# Altium footprint library DIODES PTH.PcbLib: 160 footprints (part 5 of 10)
Each footprint in its own frame and in the unit in brackets; x right, y up, seen from the top. Pads: shape width x height; smd on the part's side, far side on the other; paste and mask are expansions set on the pad; w line width, h text height; cw(c..) or ccw(c..) is an arc to the next point about the centre after c.
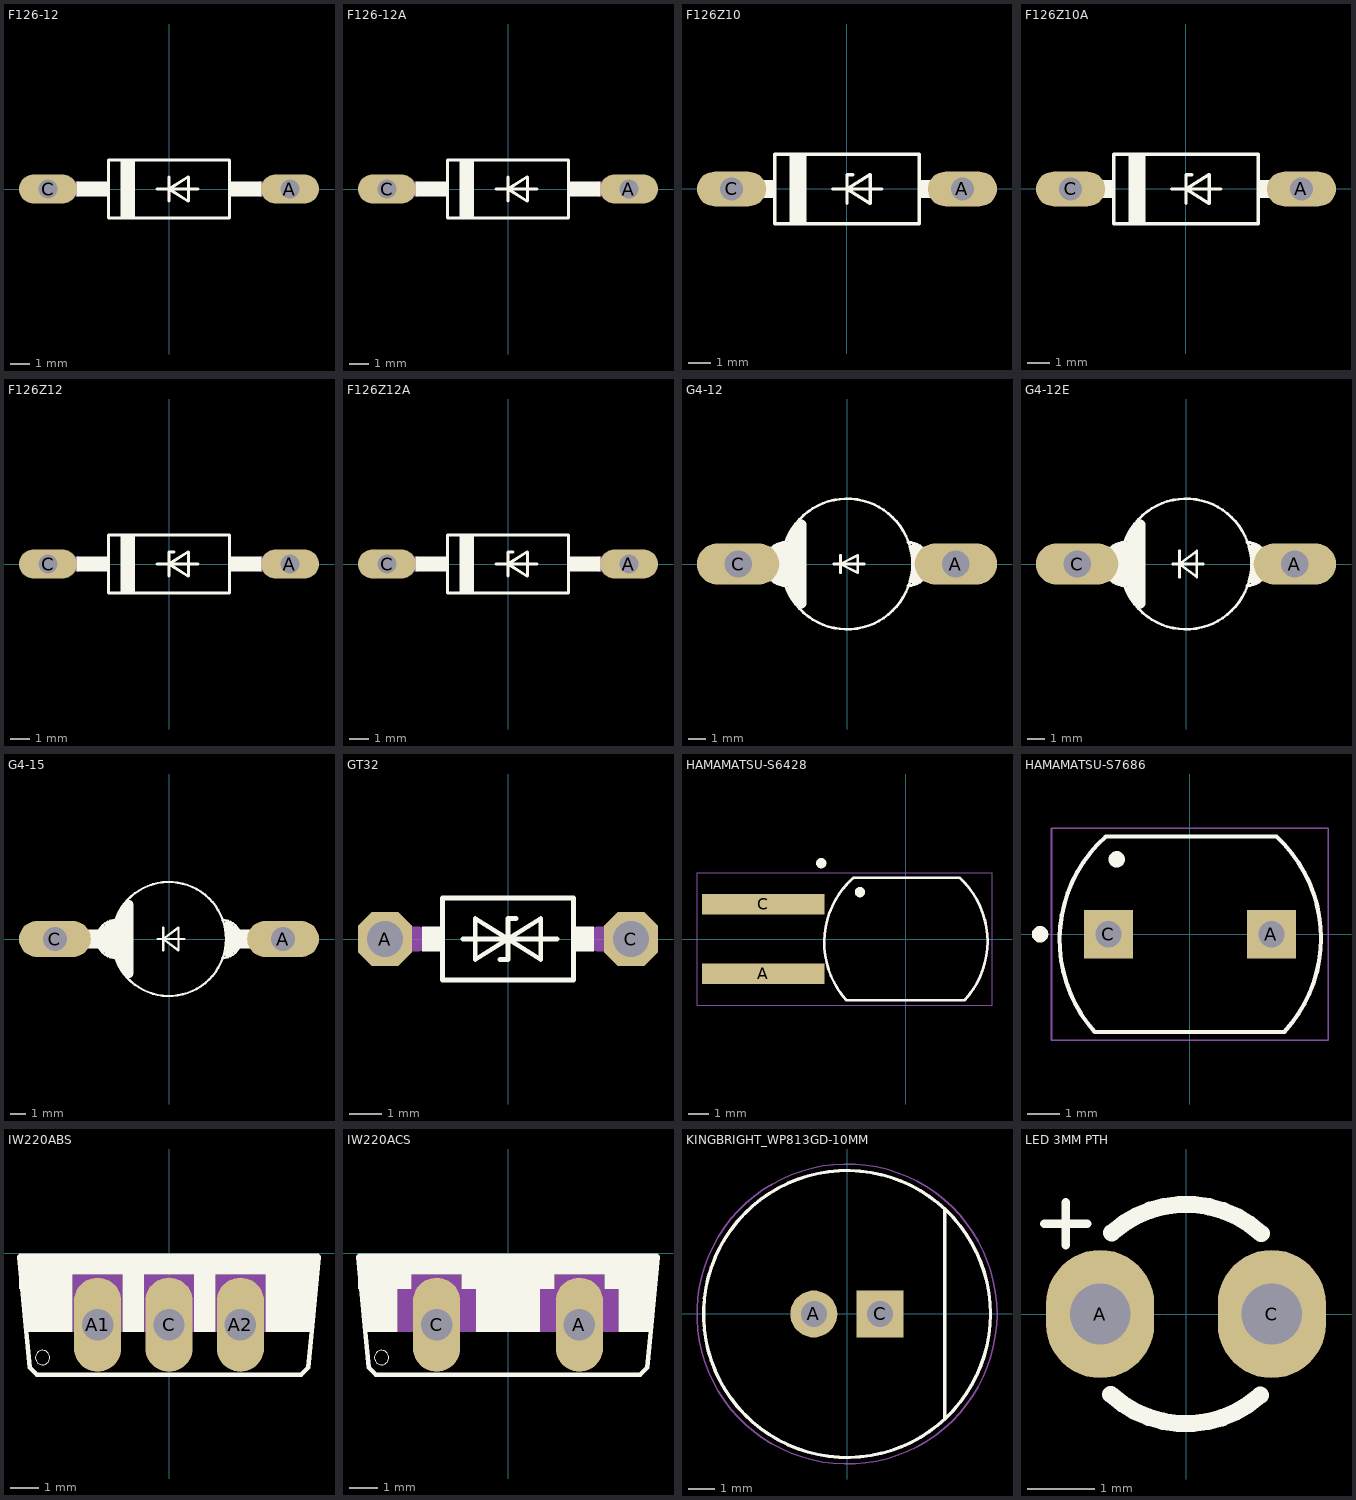
[diagram p4: the footprints below, top view; thin cyan lines are the x and y axes]

## F126-12 [mil]
pads (2):
  oval 120x60 hole 40: A(250,0) C(-250,0)
Top Overlay:
  rectangle: 125,-16 191,16
  rectangle: -191,-16 -125,16
  rectangle: -100,-60 -70,60
  lines w6: -25,0 0,0 ; 0,-25 0,0 ; 0,25 0,0 ; 60,0 0,0 ; 0,0 40,25 40,-25 0,0 ; -125,-60 -125,60 125,60 125,-60 -125,-60
Mechanical 16:
  lines w32: -250,0 -190,0 ; 190,0 250,0

## F126-12A [mil]
pads (2):
  oval 120x60 hole 40: A(250,0) C(-250,0)
Top Overlay:
  rectangle: 125,-16 191,16
  rectangle: -191,-16 -125,16
  rectangle: -100,-60 -70,60
  lines w6: -25,0 0,0 ; 0,-25 0,0 ; 0,25 0,0 ; 60,0 0,0 ; 0,0 40,25 40,-25 0,0 ; -125,-60 -125,60 125,60 125,-60 -125,-60
Mechanical 16:
  lines w32: -250,0 -190,0 ; 190,0 250,0

## F126Z10 [mil]
pads (2):
  oval 120x60 hole 40: A(200,0) C(-200,0)
Top Overlay:
  rectangle: -147,-16 -125,16
  rectangle: 125,-16 147,16
  rectangle: -100,-60 -70,60
  lines w6: -25,0 0,0 ; 0,-25 0,0 ; 10,25 0,25 0,0 ; 60,0 0,0 ; 0,0 40,25 40,-25 0,0 ; -125,-60 -125,60 125,60 125,-60 -125,-60
Mechanical 16:
  lines w32: -200,0 -150,0 ; 150,0 200,0

## F126Z10A [mil]
pads (2):
  oval 120x60 hole 40: A(200,0) C(-200,0)
Top Overlay:
  rectangle: -147,-16 -125,16
  rectangle: 125,-16 147,16
  rectangle: -100,-60 -70,60
  lines w6: -25,0 0,0 ; 0,-25 0,0 ; 10,25 0,25 0,0 ; 60,0 0,0 ; 0,0 40,25 40,-25 0,0 ; -125,-60 -125,60 125,60 125,-60 -125,-60
Mechanical 16:
  lines w32: -200,0 -150,0 ; 150,0 200,0

## F126Z12 [mil]
pads (2):
  oval 120x60 hole 40: A(250,0) C(-250,0)
Top Overlay:
  rectangle: 125,-16 191,16
  rectangle: -191,-16 -125,16
  rectangle: -100,-60 -70,60
  lines w6: -25,0 0,0 ; 0,-25 0,0 ; 10,25 0,25 0,0 ; 60,0 0,0 ; 0,0 40,25 40,-25 0,0 ; -125,-60 -125,60 125,60 125,-60 -125,-60
Mechanical 16:
  lines w32: -250,0 -190,0 ; 190,0 250,0

## F126Z12A [mil]
pads (2):
  oval 120x60 hole 40: A(250,0) C(-250,0)
Top Overlay:
  rectangle: 125,-16 191,16
  rectangle: -191,-16 -125,16
  rectangle: -100,-60 -70,60
  lines w6: -25,0 0,0 ; 0,-25 0,0 ; 10,25 0,25 0,0 ; 60,0 0,0 ; 0,0 40,25 40,-25 0,0 ; -125,-60 -125,60 125,60 125,-60 -125,-60
Mechanical 16:
  lines w32: -250,0 -190,0 ; 190,0 250,0

## G4-12 [mil]
pads (2):
  oval 189x94.5 hole 63: A(250,0) C(-250,0)
Top Overlay:
  circle w6: c0,0 r150
  rectangle: 150,-25 195,25
  rectangle: -195,-25 -150,25
  lines w6: -140,-50 cw(c-140,0) -140,50 ; -30,0 -15,0 ; -15,-20 -15,0 ; -15,20 -15,0 ; 40,0 -15,0 ; 140,-50 ccw(c140,0) 140,50 ; -15,0 25,-20 25,20 -15,0
  lines w24: -170,-20 -155,-35 ; -170,20 -155,35 ; -140,-40 -140,40 ; -115,-80 -125,-60 -125,60 -115,80 ; -105,-90 -105,90 ; 155,-35 170,-20 ; 155,35 170,20
Mechanical 16:
  lines w50: -250,0 -200,0 ; 200,0 250,0

## G4-12E [mil]
pads (2):
  oval 189x94.5 hole 63: A(250,0) C(-250,0)
Top Overlay:
  circle w6: c0,0 r150
  rectangle: -195,-25 -150,25
  rectangle: 150,-25 195,25
  lines w6: -140,-50 cw(c-140,0) -140,50 ; -30,0 -15,0 ; -15,-30 -15,0 ; -15,30 -15,0 ; 40,0 -15,0 ; 140,-50 ccw(c140,0) 140,50 ; -15,0 25,30 25,-30 -15,0
  lines w24: -170,-20 -155,-35 ; -170,20 -155,35 ; -140,-40 -140,40 ; -115,-80 -125,-60 -125,60 -115,80 ; -105,-90 -105,90 ; 155,-35 170,-20 ; 155,35 170,20
Mechanical 16:
  lines w50: -250,0 -200,0 ; 200,0 250,0

## G4-15 [mil]
pads (2):
  oval 189x94.5 hole 63: A(300,0) C(-300,0)
Top Overlay:
  circle w6: c0,0 r150
  rectangle: -230,-25 -150,25
  rectangle: 150,-25 230,25
  lines w6: -140,-50 cw(c-140,0) -140,50 ; -30,0 -15,0 ; -15,-30 -15,0 ; -15,30 -15,0 ; 40,0 -15,0 ; 140,-50 ccw(c140,0) 140,50 ; -15,0 25,30 25,-30 -15,0
  lines w24: -170,-20 -155,-35 ; -170,20 -155,35 ; -140,-40 -140,40 ; -115,-80 -125,-60 -125,60 -115,80 ; -105,-90 -105,90 ; 155,-35 170,-20 ; 155,35 170,20
Mechanical 16:
  lines w50: -300,0 -225,0 ; 225,0 300,0

## GT32 [mil]
pads (2):
  oct 66x66 hole 44: A(-150,0) C(150,0)
Top Overlay:
  rectangle: -105,-15 -80,15
  rectangle: 80,-15 105,15
  lines w6: -55,0 0,0 ; -10,-25 0,-25 0,0 ; 10,25 0,25 0,0 ; 60,0 0,0 ; 0,0 -40,-25 -40,25 0,0 ; 0,0 40,25 40,-25 0,0 ; -80,-50 -80,50 80,50 80,-50 -80,-50
Mechanical 16:
  lines w30: -150,0 -110,0 ; 110,0 150,0

## HAMAMATSU-S6428 [mm] "Photodiode with sensitivity close to spectral luminous efficiency"
pads (2):
  rect 6x1 smd mask+0.05: A(-7,-1.7) C(-7,1.7)
Top Overlay:
  circle w0.254: c-2.25,2.3 r0.125
  circle w0.254: c-4.15,3.725 r0.125
  lines w0.127: -2.921,-3 2.891,-3 ; -2.921,-2.998 cw(c0.241,-0.17) -2.583,2.997 ; -2.584,3 2.655,3 cw(c-0.22,-0.12) 2.898,-2.997
Mechanical 1:
  lines w0.1: -2.921,-3 cw(c0.241,-0.172) -2.583,2.995 ; -2.921,-2.997 2.9,-2.997 ; -2.583,3 2.65,3 ; 2.657,2.997 cw(c-0.218,-0.123) 2.9,-3
Mechanical 15:
  lines w0.05: -10.25,-3.25 4.25,-3.25 4.25,3.25 -10.25,3.25 -10.25,-3.25
3D body "S1133.STEP": height 1.6, standoff -8.9, extent -4,-3 4,3

## HAMAMATSU-S7686 [mm] "Photodiode with sensitivity close to spectral luminous efficiency"
pads (2):
  rect 1.5x1.5 hole 0.8 mask+0.05: A(2.5,0) C(-2.5,0)
Top Overlay:
  circle w0.254: c-4.6,0 r0.125
  circle w0.254: c-2.25,2.3 r0.125
  lines w0.127: -2.921,-3 2.891,-3 ; -2.921,-2.998 cw(c0.241,-0.17) -2.583,2.997 ; -2.584,3 2.655,3 cw(c-0.22,-0.12) 2.898,-2.997
Mechanical 1:
  lines w0.1: -2.921,-3 cw(c0.241,-0.172) -2.583,2.995 ; -2.921,-2.997 2.9,-2.997 ; -2.583,3 2.65,3 ; 2.657,2.997 cw(c-0.218,-0.123) 2.9,-3
Mechanical 15:
  lines w0.05: -4.25,-3.25 -4.25,3.25 4.25,3.25 4.25,-3.25 -4.25,-3.25
3D body "S1133.STEP": height 1.6, standoff -8.9, extent -4,-3 4,3

## IW220ABS [mil]
pads (3):
  oval 66x132 hole 44: A1(-100,-100) A2(100,-100) C(0,-100)
Top Overlay:
  circle w0: c-177,-146 r10
  rectangle: -210,-30 210,0
  rectangle: -210,-50 -135,-30
  rectangle: 135,-50 205,-30
  rectangle: 200,-75 205,-50
  rectangle: -205,-75 -200,-50
  rectangle: 135,-110 200,-50
  rectangle: 35,-110 65,-30
  rectangle: -65,-110 -35,-30
  rectangle: -200,-110 -135,-50
  lines w6: -210,-5 -195,-160 -185,-170 185,-170 195,-160 210,-5
Mechanical 16:
  rectangle: 65,-110 135,-30
  rectangle: -35,-110 35,-30
  rectangle: -135,-110 -65,-30

## IW220ACS [mil]
pads (2):
  oval 66x132 hole 44: A(100,-100) C(-100,-100)
Top Overlay:
  circle w0: c-177,-146 r10
  rectangle: -205,-75 -200,-50
  rectangle: -200,-110 -155,-50
  rectangle: -45,-110 45,-50
  rectangle: 200,-75 205,-50
  rectangle: 135,-50 205,-30
  rectangle: 155,-110 200,-50
  rectangle: -65,-50 65,-30
  rectangle: -210,-50 -135,-30
  rectangle: -210,-30 210,0
  lines w6: -210,-5 -195,-160 -185,-170 185,-170 195,-160 210,-5
Mechanical 16:
  rectangle: -155,-110 -45,-50
  rectangle: 45,-110 155,-50
  rectangle: 65,-50 135,-30
  rectangle: -135,-50 -65,-30

## KINGBRIGHT_WP813GD-10MM [mm] "LED GREEN DIFFUSED 10MM T/H, 2.54mm PITCH"
pads (2):
  round 1.8 hole 1: A(-1.27,0)
  rect 1.8x1.8 hole 1: C(1.27,0)
Top Overlay:
  circle w0.127: c0,0 r5.5
  lines w0.127: 3.75,-4 3.75,4
Mechanical 1:
  circle w0.1: c0,0 r5.5
Mechanical 15:
  circle w0.05: c0,0 r5.75
3D body "813.STEP": height 14.5, standoff -26, extent -5.481,-5.5 5.481,5.5

## LED 3MM PTH [mm]
pads (2):
  oval 1.6x1.9 hole 0.9 mask+0.14: A(-1.27,0) C(1.27,0)
Top Overlay:
  lines w0.127: -2.095,1.333 -1.46,1.333 ; -1.778,1.016 -1.778,1.651
  lines w0.254: -1.114,-1.19 ccw(c0,0.025) 1.1,-1.203 ; -1.1,1.203 cw(c0,-0.025) 1.114,1.19
3D body "led3mm.STEP": height 5.49, standoff -26.11, extent -1.727,-1.6 1.473,1.6